# Altium footprint library ONSemi.PcbLib: 1 footprints
Each footprint in its own frame and in the unit in brackets; x right, y up, seen from the top. Pads: shape width x height; smd on the part's side, far side on the other; paste and mask are expansions set on the pad; w line width, h text height; cw(c..) or ccw(c..) is an arc to the next point about the centre after c.
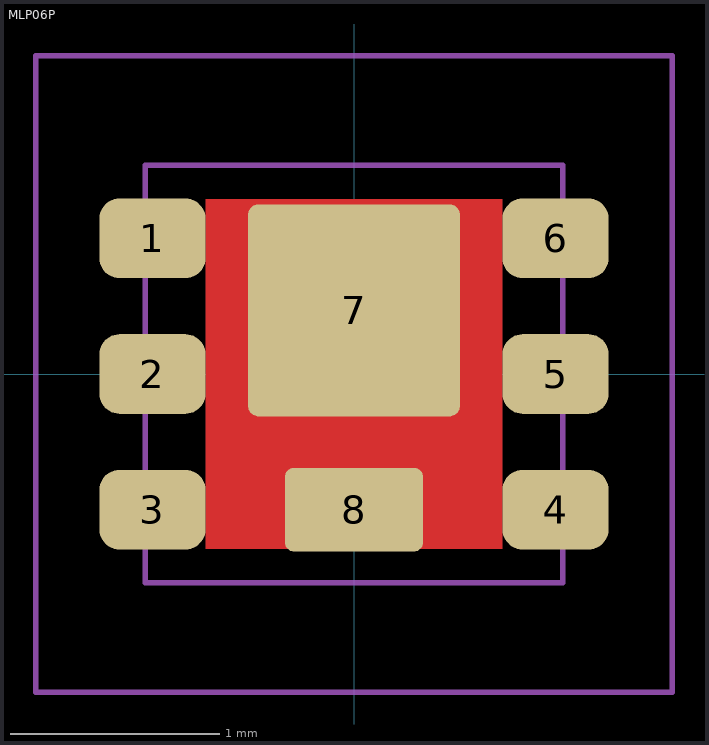
[diagram p0: the footprint, top view; thin cyan lines are the x and y axes]

## MLP06P [mil]
height 31.5
pads (8):
  rrect50% 20x15 smd mask+2: 1(-38,25.59) 2(-38,0) 3(-38,-25.59) 4(38,-25.59) 5(38,0) 6(38,25.59)
  rrect10% 40x40 smd paste-200 mask+2: 7(0,12)
  rrect20% 25.98x15.75 smd mask+2: 8(0,-25.59)
Top Layer:
  pour cut-out: -28,33 28,33 28,-33 -28,-33
Top Paste:
  rectangle: -19,-7 -4,31
  rectangle: 4,-7 19,31
Top Solder:
  region: -35,44 -28,56 -42,56
Top Component Outline:
  lines w1: -60,-60 -60,60 60,60 60,-60 -60,-60
Top 3D Body (Mech16):
  lines w1: -39.37,-39.37 -39.37,39.37 39.37,39.37 39.37,-39.37 -39.37,-39.37
3D body: height 21, standoff 0, extent -39.37,-39.37 39.37,39.37
3D body: height 10, standoff 0, extent -40.37,-30.59 -30.37,-20.59
3D body: height 10, standoff 0, extent -40.37,-5 -30.37,5
3D body: height 10, standoff 0, extent -40.37,20.59 -30.37,30.59
3D body: height 10, standoff 0, extent 30.37,-30.59 40.37,-20.59
3D body: height 10, standoff 0, extent 30.37,-5 40.37,5
3D body: height 10, standoff 0, extent 30.37,20.59 40.37,30.59
3D body: height 21.1, standoff 20.5, extent -26.94,13.02 -13,26.99